# Altium schematic symbol library KVM Mux.SchLib: 6 symbols
Pins are listed as number, name and electrical type; pins without a type are passive.

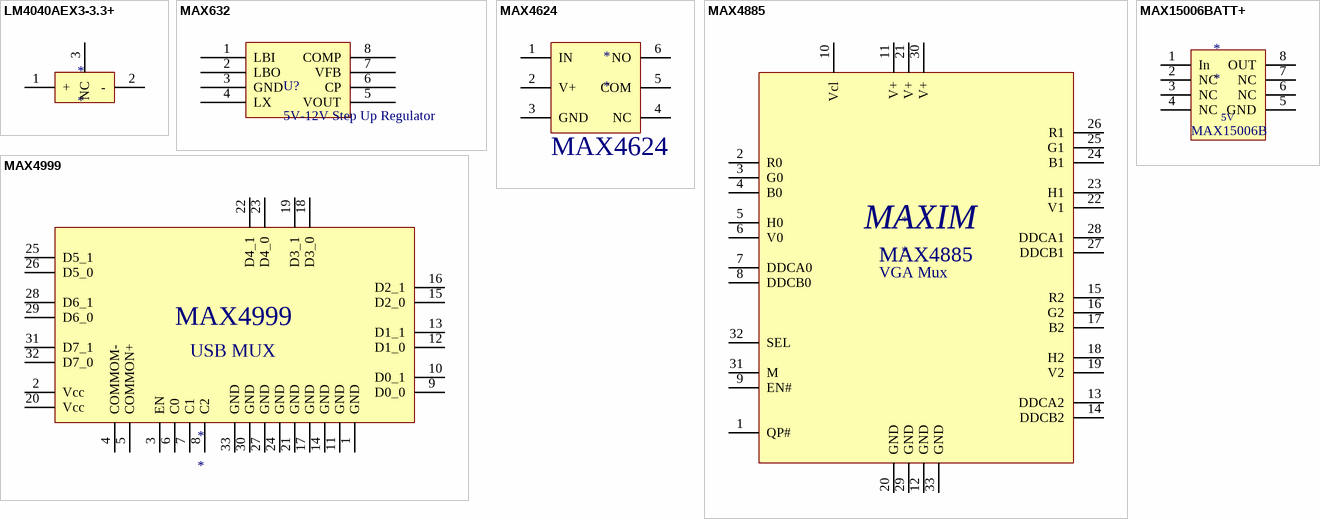
[diagram p0: symbols LM4040AEX3-3.3+ to MAX15006BATT+]

## LM4040AEX3-3.3+
designator *
footprint SOT65P210X110-3N (SOT23, 3-Leads, Body 2.2x2.4mm (max), Pitch 0.65mm, IPC Medium Density)
pins: 1 +, 2 -, 3 NC

## MAX632
designator U?, comment 5V-12V Step Up Regulator
Supplier: DigiKey; Supplier Part Number: MAX632ACPA-ND
footprint DIP-8 (DIP; 8 Leads; Row Spacing 7.62 mm; Pitch 2.54 mm)
pins: 1 LBI, 2 LBO, 3 GND, 4 LX, 5 VOUT, 6 CP, 7 VFB, 8 COMP

## MAX4624
designator *
footprint SOT95P275X110-6M (SOT23, 6-Leads, Body 3.0x2.8mm (max), Pitch 0.95mm, IPC Low Density)
pins: 1 IN, 2 V+, 3 GND, 4 NC, 5 COM, 6 NO

## MAX4885
designator *
footprint QFN50P500X500X80-32M (QFN, 32-Leads, Body 5.1x5.1mm (max), Pitch 0.50mm, IPC Low Density)
pins: 1 QP#, 2 R0, 3 G0, 4 B0, 5 H0, 6 V0, 7 DDCA0, 8 DDCB0, 9 EN#, 10 Vcl, 11 V+, 12 GND, 13 DDCA2, 14 DDCB2, 15 R2, 16 G2, 17 B2, 18 H2, 19 V2, 20 GND, 21 V+, 22 V1, 23 H1, 24 B1, 25 G1, 26 R1, 27 DDCB1, 28 DDCA1, 29 GND, 30 V+, 31 M, 32 SEL, 33 GND
text: MAXIM; VGA Mux

## MAX4999
designator *
footprint QFN50P500X500X80-32M (QFN, 32-Leads, Body 5.1x5.1mm (max), Pitch 0.50mm, IPC Low Density)
pins: 1 GND, 2 Vcc, 3 EN, 4 COMMOM-, 5 COMMON+, 6 C0, 7 C1, 8 C2, 9 D0_0, 10 D0_1, 11 GND, 12 D1_0, 13 D1_1, 14 GND, 15 D2_0, 16 D2_1, 17 GND, 18 D3_0 "USB3-", 19 D3_1 "USB3+", 20 Vcc, 21 GND, 22 D4_1 "USB4+", 23 D4_0 "USB4-", 24 GND, 25 D5_1 "USB5+", 26 D5_0 "USB5-", 27 GND, 28 D6_1 "USB6+", 29 D6_0 "USB6-", 30 GND, 31 D7_1 "USB7+", 32 D7_0 "USB7-", 33 GND
text: USB MUX

## MAX15006BATT+
designator *
footprint SOIC127P600-8N
pins: 1 In, 2 NC, 3 NC, 4 NC, 5 GND, 6 NC, 7 NC, 8 OUT
text: 5V; MAX15006B